# Altium integrated library ISSI SRAM Synchronous SRAM No-Wait(ZBT).IntLib: 1246 symbols (part 93 of 152)
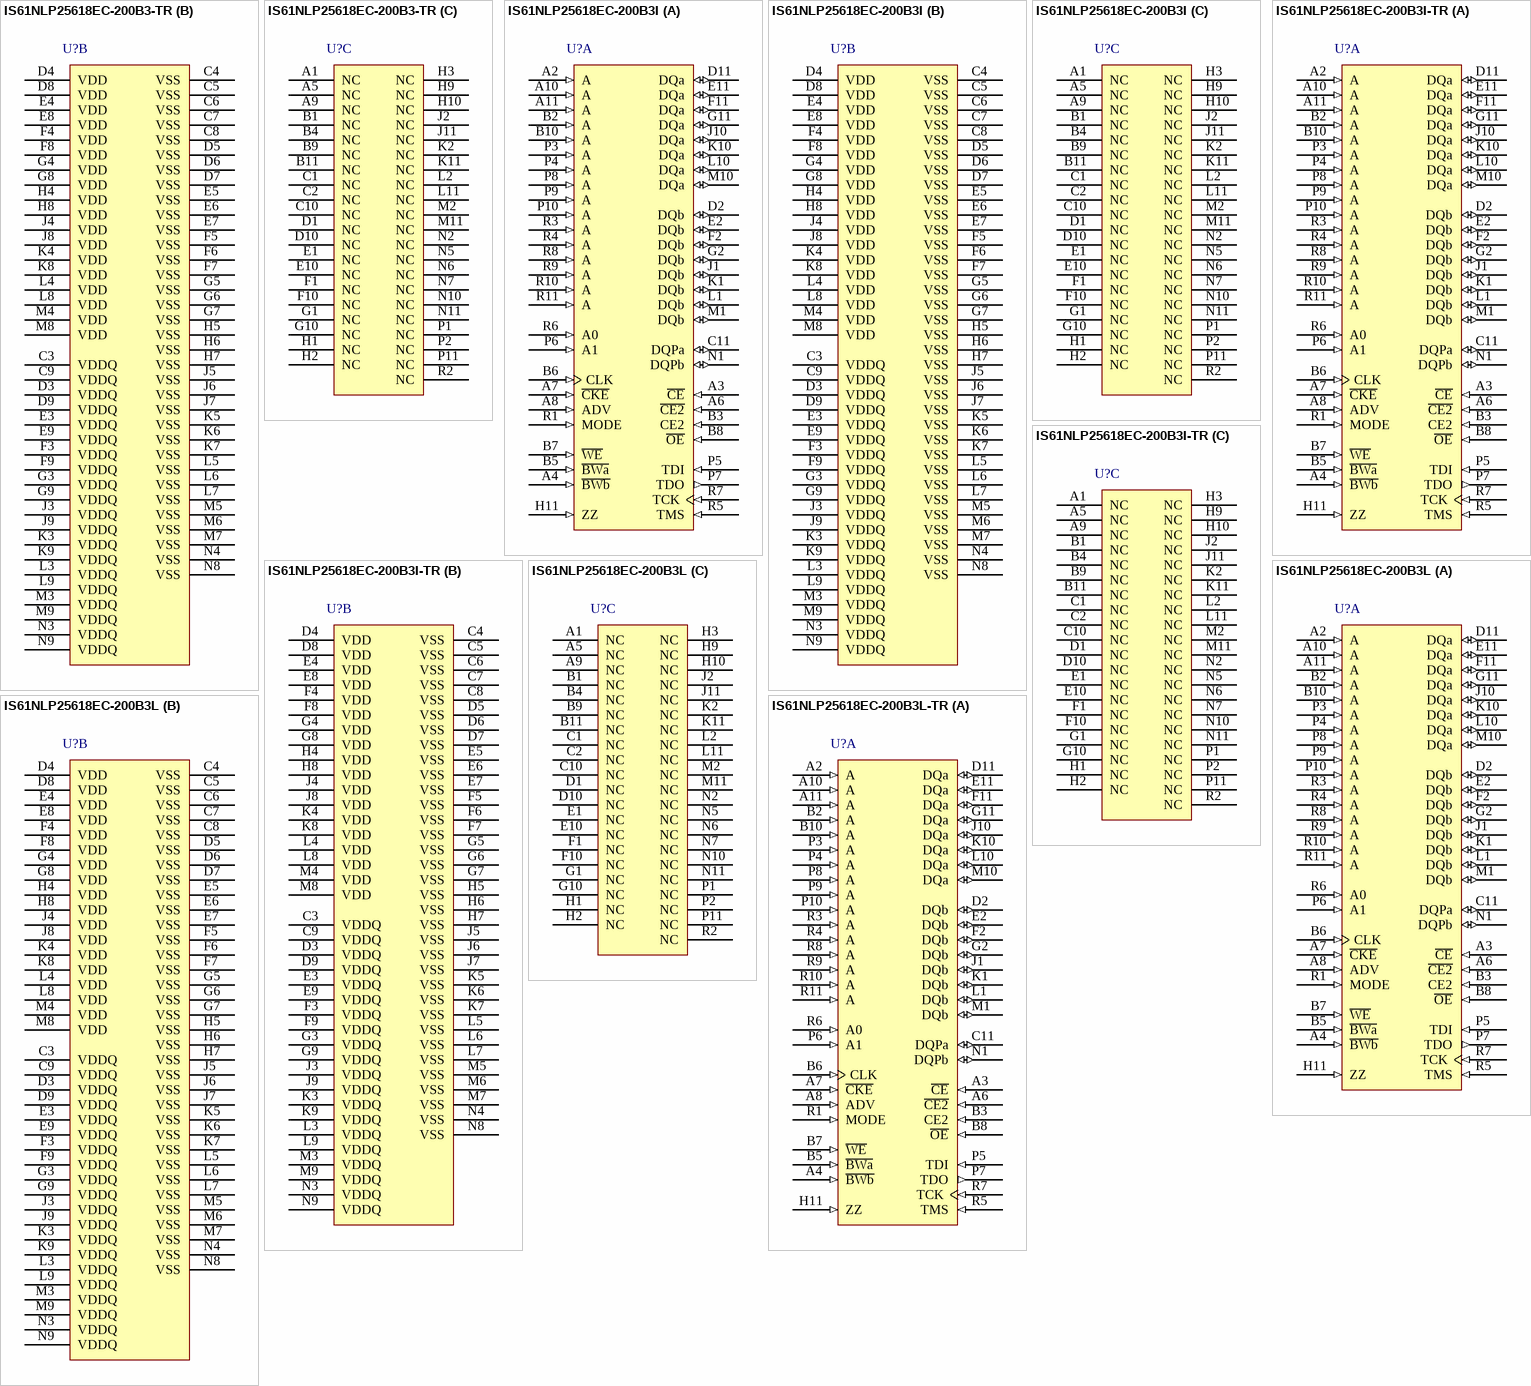
[diagram p384: symbols IS61NLP25618EC-200B3-TR to IS61NLP25618EC-200B3L-TR]

## IS61NLP25618EC-200B3I
designator U?
4 M Pipeline 'No Wait' State Bus Synchronous SRAM with ECC, 256 K x 18, -40 to 85 degC, 165-Pin BGA (TF-BGA-165); Manufacturer: Integrated Silicon Solution Inc (ISSI); PartNumber: IS61NLP25618EC-200B3I; Density: 4M; Packing: Tray / Tube; Vcc: 3.3 V; VccQ: 2.5 / 3.3 V; DatasheetVersion: Rev. A; PackageVersion: Rev. B, 08/2008; PackageReference: TF-BGA-165; PackageDescription: 165-Pin 13 x 15 mm TF-BGA, Pitch 1 mm; Organization: 256Kx18; Mounting Technology: Surface Mount; ComponentLink1Description: Manufacturer URL; ComponentLink1URL: http://www.issi.com/US/index.shtml; ComponentLink2Description: Datasheet; ComponentLink2URL: http://www.issi.com/WW/pdf/61-64NLP_NVP12832EC-12836EC-25618EC.pdf; ComponentLink3Description: Package Specification; ComponentLink3URL: http://www.issi.com/WW/pdf/61NLP_NVP25636A_51218A.pdf
footprint ISSI-TF-BGA-165-13000X15000DE (BGA, 165-Balls, Body 15x13mm, Pitch 1mm)
part A pins: A2 A (in) "Synchronous Address Input", A3 ~{CE} (in) "Synchronous Chip Enable", A4 ~{BWb} (in) "Synchronous Byte Write Input", A6 ~{CE2} (in) "Synchronous Chip Enable", A7 ~{CKE} (in) "Clock Enable", A8 ADV (in) "Synchronous Advance/Load", A10 A (in) "Synchronous Address Input", A11 A (in) "Synchronous Address Input", B2 A (in) "Synchronous Address Input", B3 CE2 (in) "Synchronous Chip Enable", B5 ~{BWa} (in) "Synchronous Byte Write Input", B6 CLK (in) "Synchronous Clock", B7 ~{WE} (in) "Write Enable", B8 ~{OE} (in) "Asynchronous Output Enable", B10 A (in) "Synchronous Address Input", C11 DQPa (io) "Synchronous Parity Data I/O", D2 DQb (io) "Synchronous Data Input/Output", D11 DQa (io) "Synchronous Data Input/Output", E2 DQb (io) "Synchronous Data Input/Output", E11 DQa (io) "Synchronous Data Input/Output", F2 DQb (io) "Synchronous Data Input/Output", F11 DQa (io) "Synchronous Data Input/Output", G2 DQb (io) "Synchronous Data Input/Output", G11 DQa (io) "Synchronous Data Input/Output", H11 ZZ (in) "Asynchronous Power Sleep Mode", J1 DQb (io) "Synchronous Data Input/Output", J10 DQa (io) "Synchronous Data Input/Output", K1 DQb (io) "Synchronous Data Input/Output", K10 DQa (io) "Synchronous Data Input/Output", L1 DQb (io) "Synchronous Data Input/Output", L10 DQa (io) "Synchronous Data Input/Output", M1 DQb (io) "Synchronous Data Input/Output", M10 DQa (io) "Synchronous Data Input/Output", N1 DQPb (io) "Synchronous Parity Data I/O", P3 A (in) "Synchronous Address Input", P4 A (in) "Synchronous Address Input", P5 TDI (in) "JTAG Pin", P6 A1 (in) "Synchronous Burst Address Input", P7 TDO (out) "JTAG Pin", P8 A (in) "Synchronous Address Input", P9 A (in) "Synchronous Address Input", P10 A (in) "Synchronous Address Input", R1 MODE (in) "Burst Sequence Selection", R3 A (in) "Synchronous Address Input", R4 A (in) "Synchronous Address Input", R5 TMS (in) "JTAG Pin", R6 A0 (in) "Synchronous Burst Address Input", R7 TCK (in) "JTAG Pin", R8 A (in) "Synchronous Address Input", R9 A (in) "Synchronous Address Input", R10 A (in) "Synchronous Address Input", R11 A (in) "Synchronous Address Input"
part B pins: C3 VDDQ (power) "I/O Power Supply", C4 VSS (power) "Ground", C5 VSS (power) "Ground", C6 VSS (power) "Ground", C7 VSS (power) "Ground", C8 VSS (power) "Ground", C9 VDDQ (power) "I/O Power Supply", D3 VDDQ (power) "I/O Power Supply", D4 VDD (power) "Power Supply", D5 VSS (power) "Ground", D6 VSS (power) "Ground", D7 VSS (power) "Ground", D8 VDD (power) "Power Supply", D9 VDDQ (power) "I/O Power Supply", E3 VDDQ (power) "I/O Power Supply", E4 VDD (power) "Power Supply", E5 VSS (power) "Ground", E6 VSS (power) "Ground", E7 VSS (power) "Ground", E8 VDD (power) "Power Supply", E9 VDDQ (power) "I/O Power Supply", F3 VDDQ (power) "I/O Power Supply", F4 VDD (power) "Power Supply", F5 VSS (power) "Ground", F6 VSS (power) "Ground", F7 VSS (power) "Ground", F8 VDD (power) "Power Supply", F9 VDDQ (power) "I/O Power Supply", G3 VDDQ (power) "I/O Power Supply", G4 VDD (power) "Power Supply", G5 VSS (power) "Ground", G6 VSS (power) "Ground", G7 VSS (power) "Ground", G8 VDD (power) "Power Supply", G9 VDDQ (power) "I/O Power Supply", H4 VDD (power) "Power Supply", H5 VSS (power) "Ground", H6 VSS (power) "Ground", H7 VSS (power) "Ground", H8 VDD (power) "Power Supply", J3 VDDQ (power) "I/O Power Supply", J4 VDD (power) "Power Supply", J5 VSS (power) "Ground", J6 VSS (power) "Ground", J7 VSS (power) "Ground", J8 VDD (power) "Power Supply", J9 VDDQ (power) "I/O Power Supply", K3 VDDQ (power) "I/O Power Supply", K4 VDD (power) "Power Supply", K5 VSS (power) "Ground", K6 VSS (power) "Ground", K7 VSS (power) "Ground", K8 VDD (power) "Power Supply", K9 VDDQ (power) "I/O Power Supply", L3 VDDQ (power) "I/O Power Supply", L4 VDD (power) "Power Supply", L5 VSS (power) "Ground", L6 VSS (power) "Ground", L7 VSS (power) "Ground", L8 VDD (power) "Power Supply", L9 VDDQ (power) "I/O Power Supply", M3 VDDQ (power) "I/O Power Supply", M4 VDD (power) "Power Supply", M5 VSS (power) "Ground", M6 VSS (power) "Ground", M7 VSS (power) "Ground", M8 VDD (power) "Power Supply", M9 VDDQ (power) "I/O Power Supply", N3 VDDQ (power) "I/O Power Supply", N4 VSS (power) "Ground", N8 VSS (power) "Ground", N9 VDDQ (power) "I/O Power Supply"
part C pins: A1 NC "No Connect", A5 NC "No Connect", A9 NC "No Connect", B1 NC "No Connect", B4 NC "No Connect", B9 NC "No Connect", B11 NC "No Connect", C1 NC "No Connect", C2 NC "No Connect", C10 NC "No Connect", D1 NC "No Connect", D10 NC "No Connect", E1 NC "No Connect", E10 NC "No Connect", F1 NC "No Connect", F10 NC "No Connect", G1 NC "No Connect", G10 NC "No Connect", H1 NC "No Connect", H2 NC "No Connect", H3 NC "No Connect", H9 NC "No Connect", H10 NC "No Connect", J2 NC "No Connect", J11 NC "No Connect", K2 NC "No Connect", K11 NC "No Connect", L2 NC "No Connect", L11 NC "No Connect", M2 NC "No Connect", M11 NC "No Connect", N2 NC "No Connect", N5 NC "No Connect", N6 NC "No Connect", N7 NC "No Connect", N10 NC "No Connect", N11 NC "No Connect", P1 NC "No Connect", P2 NC "No Connect", P11 NC "No Connect", R2 NC "No Connect"